# Altium footprint library Connectors-WR-PHD_Pin Header.PcbLib: 232 footprints (part 2 of 15)
Each footprint in its own frame and in the unit in brackets; x right, y up, seen from the top. Pads: shape width x height; smd on the part's side, far side on the other; paste and mask are expansions set on the pad; w line width, h text height; cw(c..) or ccw(c..) is an arc to the next point about the centre after c.
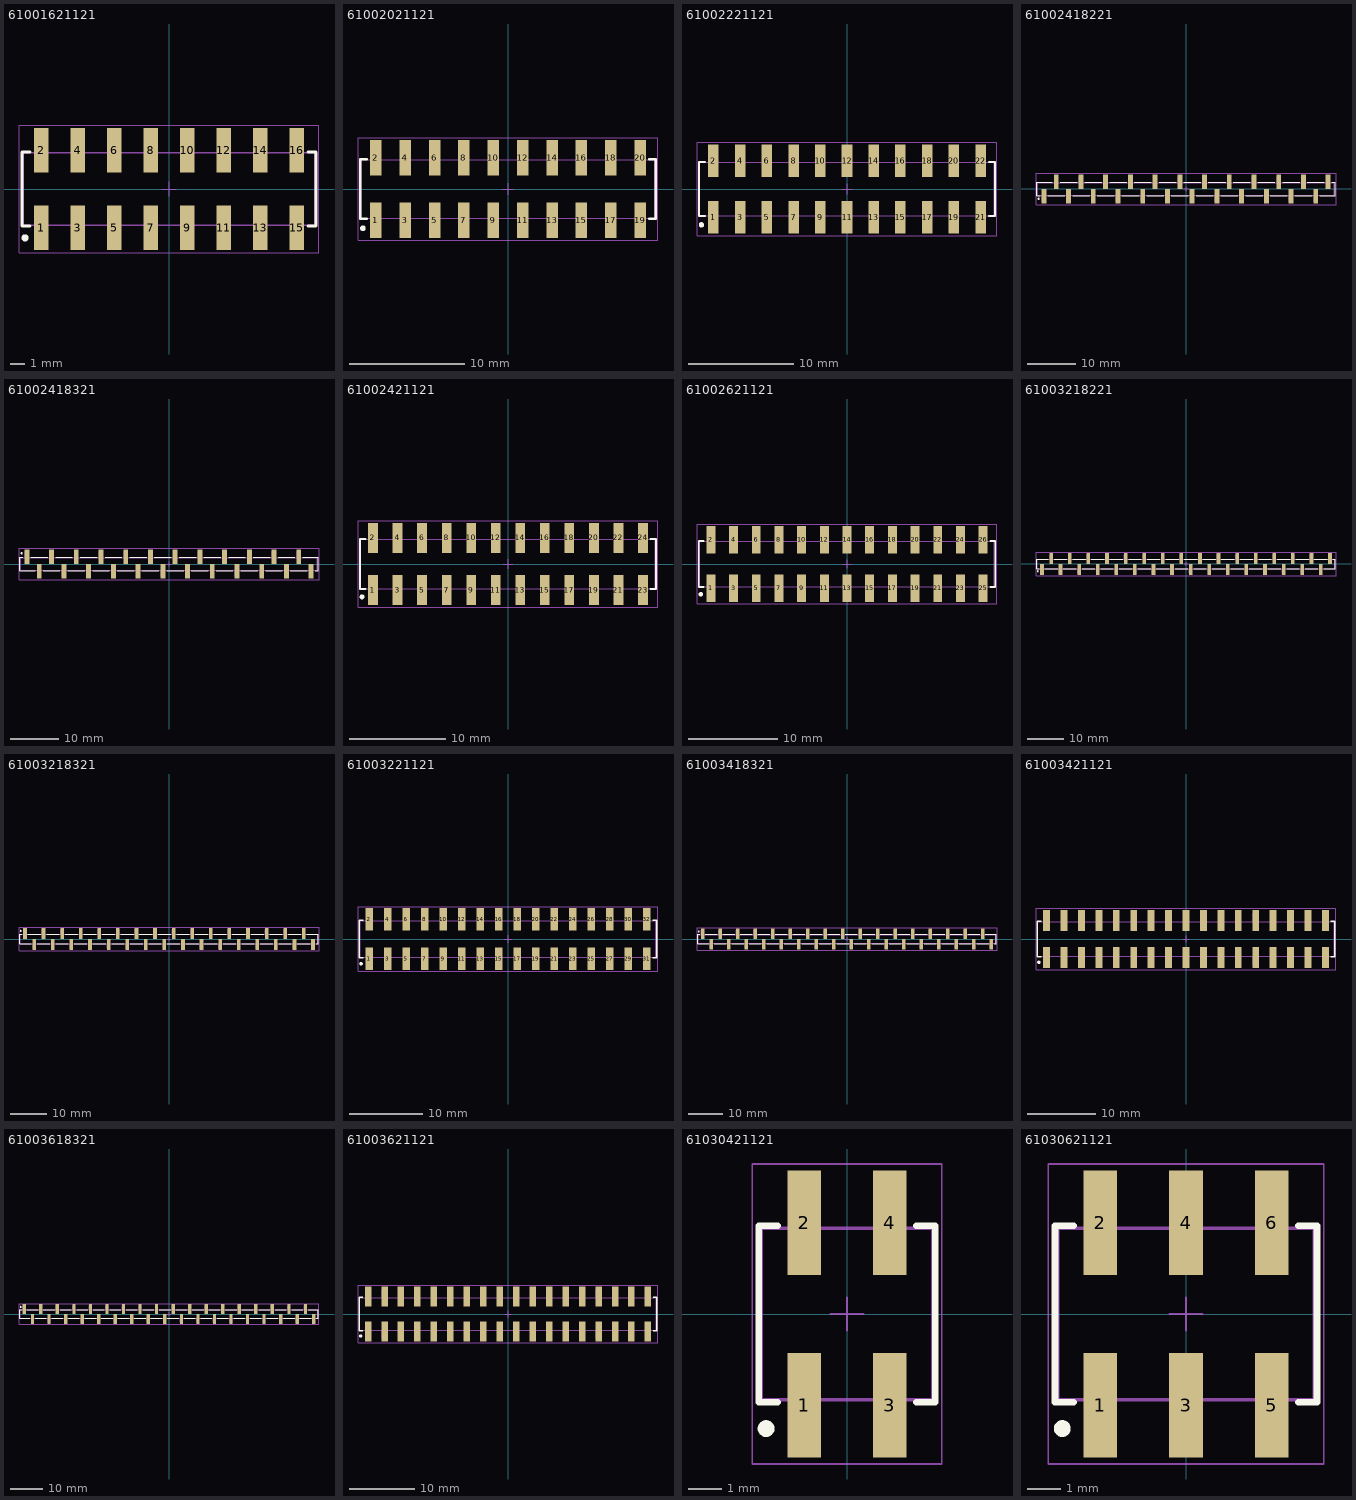
[diagram p1: the footprints below, top view; thin cyan lines are the x and y axes]

## 61001621121 [mm] "Pin Header, pitch 2.54 mm, SMD, Vertical, dual row, 16p"
height 9.6
pads (16):
  rect 1x3.1 smd: 1(-8.89,-2.7) 2(-8.89,2.7) 3(-6.35,-2.7) 4(-6.35,2.7) 5(-3.81,-2.7) 6(-3.81,2.7) 7(-1.27,-2.7) 8(-1.27,2.7) 9(1.27,-2.7) 10(1.27,2.7) 11(3.81,-2.7) 12(3.81,2.7) 13(6.35,-2.7) 14(6.35,2.7) 15(8.89,-2.7) 16(8.89,2.7)
Top Overlay:
  circle w0.25: c-10.02,-3.4 r0.125
  lines w0.2: -9.685,-2.565 -10.235,-2.565 -10.235,2.565 -9.685,2.565 ; 9.685,-2.565 10.235,-2.565 10.235,2.565 9.685,2.565
Top Designator:
  text ".Designator" at -7.498,-0.5 h1.5
Top Component Outline:
  lines w0.1: -9.21,-2.54 -9.21,-3.75 -8.57,-3.75 -8.57,-2.54 ; -9.21,2.54 -9.21,3.75 -8.57,3.75 -8.57,2.54 ; -6.67,-2.54 -6.67,-3.75 -6.03,-3.75 -6.03,-2.54 ; -6.67,2.54 -6.67,3.75 -6.03,3.75 -6.03,2.54 ; -4.13,-2.54 -4.13,-3.75 -3.49,-3.75 -3.49,-2.54 ; -4.13,2.54 -4.13,3.75 -3.49,3.75 -3.49,2.54 ; -1.59,-2.54 -1.59,-3.75 -0.95,-3.75 -0.95,-2.54 ; -1.59,2.54 -1.59,3.75 -0.95,3.75 -0.95,2.54 ; 0.95,-2.54 0.95,-3.75 1.59,-3.75 1.59,-2.54 ; 0.95,2.54 0.95,3.75 1.59,3.75 1.59,2.54 ; 3.49,-2.54 3.49,-3.75 4.13,-3.75 4.13,-2.54 ; 3.49,2.54 3.49,3.75 4.13,3.75 4.13,2.54 ; 6.03,-2.54 6.03,-3.75 6.67,-3.75 6.67,-2.54 ; 6.03,2.54 6.03,3.75 6.67,3.75 6.67,2.54 ; 8.57,-2.54 8.57,-3.75 9.21,-3.75 9.21,-2.54 ; 8.57,2.54 8.57,3.75 9.21,3.75 9.21,2.54 ; -10.16,-2.54 10.16,-2.54 10.16,2.54 -10.16,2.54 -10.16,-2.54
Top Courtyard:
  lines w0.05: -10.435,-4.45 10.435,-4.45 10.435,4.45 -10.435,4.45 -10.435,-4.45
Top Component Center:
  lines w0.05: -0.5,0 0.5,0 ; 0,-0.5 0,0.5
3D body "61001621121.stp": height 9.62, standoff 0.02, extent -10.16,-3.75 10.16,3.75

## 61002021121 [mm] "Pin Header, pitch 2.54 mm, SMD, Vertical, dual row, 20p"
height 9.6
pads (20):
  rect 1x3.1 smd: 1(-11.43,-2.7) 2(-11.43,2.7) 3(-8.89,-2.7) 4(-8.89,2.7) 5(-6.35,-2.7) 6(-6.35,2.7) 7(-3.81,-2.7) 8(-3.81,2.7) 9(-1.27,-2.7) 10(-1.27,2.7) 11(1.27,-2.7) 12(1.27,2.7) 13(3.81,-2.7) 14(3.81,2.7) 15(6.35,-2.7) 16(6.35,2.7) 17(8.89,-2.7) 18(8.89,2.7) 19(11.43,-2.7) 20(11.43,2.7)
Top Overlay:
  circle w0.25: c-12.56,-3.4 r0.125
  lines w0.2: -12.225,-2.565 -12.775,-2.565 -12.775,2.565 -12.225,2.565 ; 12.225,-2.565 12.775,-2.565 12.775,2.565 12.225,2.565
Top Designator:
  text ".Designator" at -7.498,-0.5 h1.5
Top Component Outline:
  lines w0.1: -11.75,-2.54 -11.75,-3.75 -11.11,-3.75 -11.11,-2.54 ; -11.75,2.54 -11.75,3.75 -11.11,3.75 -11.11,2.54 ; -9.21,-2.54 -9.21,-3.75 -8.57,-3.75 -8.57,-2.54 ; -9.21,2.54 -9.21,3.75 -8.57,3.75 -8.57,2.54 ; -6.67,-2.54 -6.67,-3.75 -6.03,-3.75 -6.03,-2.54 ; -6.67,2.54 -6.67,3.75 -6.03,3.75 -6.03,2.54 ; -4.13,-2.54 -4.13,-3.75 -3.49,-3.75 -3.49,-2.54 ; -4.13,2.54 -4.13,3.75 -3.49,3.75 -3.49,2.54 ; -1.59,-2.54 -1.59,-3.75 -0.95,-3.75 -0.95,-2.54 ; -1.59,2.54 -1.59,3.75 -0.95,3.75 -0.95,2.54 ; 0.95,-2.54 0.95,-3.75 1.59,-3.75 1.59,-2.54 ; 0.95,2.54 0.95,3.75 1.59,3.75 1.59,2.54 ; 3.49,-2.54 3.49,-3.75 4.13,-3.75 4.13,-2.54 ; 3.49,2.54 3.49,3.75 4.13,3.75 4.13,2.54 ; 6.03,-2.54 6.03,-3.75 6.67,-3.75 6.67,-2.54 ; 6.03,2.54 6.03,3.75 6.67,3.75 6.67,2.54 ; 8.57,-2.54 8.57,-3.75 9.21,-3.75 9.21,-2.54 ; 8.57,2.54 8.57,3.75 9.21,3.75 9.21,2.54 ; 11.11,-2.54 11.11,-3.75 11.75,-3.75 11.75,-2.54 ; 11.11,2.54 11.11,3.75 11.75,3.75 11.75,2.54 ; -12.7,-2.54 -12.7,2.54 12.7,2.54 12.7,-2.54 -12.7,-2.54
Top Courtyard:
  lines w0.05: -12.975,-4.45 12.975,-4.45 12.975,4.45 -12.975,4.45 -12.975,-4.45
Top Component Center:
  lines w0.05: -0.5,0 0.5,0 ; 0,-0.5 0,0.5
3D body "61002021121.stp": height 9.62, standoff 0.02, extent -12.7,-3.75 12.7,3.75

## 61002221121 [mm] "Pin Header, pitch 2.54 mm, SMD, Vertical, dual row, 22p"
height 9.6
pads (22):
  rect 1x3.1 smd: 1(-12.7,-2.7) 2(-12.7,2.7) 3(-10.16,-2.7) 4(-10.16,2.7) 5(-7.62,-2.7) 6(-7.62,2.7) 7(-5.08,-2.7) 8(-5.08,2.7) 9(-2.54,-2.7) 10(-2.54,2.7) 11(0,-2.7) 12(0,2.7) 13(2.54,-2.7) 14(2.54,2.7) 15(5.08,-2.7) 16(5.08,2.7) 17(7.62,-2.7) 18(7.62,2.7) 19(10.16,-2.7) 20(10.16,2.7) 21(12.7,-2.7) 22(12.7,2.7)
Top Overlay:
  circle w0.25: c-13.83,-3.4 r0.125
  lines w0.2: -13.495,-2.565 -14.045,-2.565 -14.045,2.565 -13.495,2.565 ; 13.495,-2.565 14.045,-2.565 14.045,2.565 13.495,2.565
Top Designator:
  text ".Designator" at -7.498,-0.5 h1.5
Top Component Outline:
  lines w0.1: -13.02,-2.54 -13.02,-3.75 -12.38,-3.75 -12.38,-2.54 ; -13.02,2.54 -13.02,3.75 -12.38,3.75 -12.38,2.54 ; -10.48,-2.54 -10.48,-3.75 -9.84,-3.75 -9.84,-2.54 ; -10.48,2.54 -10.48,3.75 -9.84,3.75 -9.84,2.54 ; -7.94,-2.54 -7.94,-3.75 -7.3,-3.75 -7.3,-2.54 ; -7.94,2.54 -7.94,3.75 -7.3,3.75 -7.3,2.54 ; -5.4,-2.54 -5.4,-3.75 -4.76,-3.75 -4.76,-2.54 ; -5.4,2.54 -5.4,3.75 -4.76,3.75 -4.76,2.54 ; -2.86,-2.54 -2.86,-3.75 -2.22,-3.75 -2.22,-2.54 ; -2.86,2.54 -2.86,3.75 -2.22,3.75 -2.22,2.54 ; -0.32,-2.54 -0.32,-3.75 0.32,-3.75 0.32,-2.54 ; -0.32,2.54 -0.32,3.75 0.32,3.75 0.32,2.54 ; 2.22,-2.54 2.22,-3.75 2.86,-3.75 2.86,-2.54 ; 2.22,2.54 2.22,3.75 2.86,3.75 2.86,2.54 ; 4.76,-2.54 4.76,-3.75 5.4,-3.75 5.4,-2.54 ; 4.76,2.54 4.76,3.75 5.4,3.75 5.4,2.54 ; 7.3,-2.54 7.3,-3.75 7.94,-3.75 7.94,-2.54 ; 7.3,2.54 7.3,3.75 7.94,3.75 7.94,2.54 ; 9.84,-2.54 9.84,-3.75 10.48,-3.75 10.48,-2.54 ; 9.84,2.54 9.84,3.75 10.48,3.75 10.48,2.54 ; 12.38,-2.54 12.38,-3.75 13.02,-3.75 13.02,-2.54 ; 12.38,2.54 12.38,3.75 13.02,3.75 13.02,2.54 ; -13.97,-2.54 13.97,-2.54 13.97,2.54 -13.97,2.54 -13.97,-2.54
Top Courtyard:
  lines w0.05: -14.245,-4.45 -14.245,4.45 14.245,4.45 14.245,-4.45 -14.245,-4.45
Top Component Center:
  lines w0.05: -0.5,0 0.5,0 ; 0,-0.5 0,0.5
3D body "61002221121.stp": height 9.62, standoff 0.02, extent -13.97,-3.75 13.97,3.75

## 61002418221 [mm] "Pin Header, pitch 2.54 mm, SMD, Vertical, single row, 24p"
height 9.3
pads (24):
  rect 1x3 smd: 1(-29.21,-1.5) 2(-26.67,1.5) 3(-24.13,-1.5) 4(-21.59,1.5) 5(-19.05,-1.5) 6(-16.51,1.5) 7(-13.97,-1.5) 8(-11.43,1.5) 9(-8.89,-1.5) 10(-6.35,1.5) 11(-3.81,-1.5) 12(-1.27,1.5) 13(1.27,-1.5) 14(3.81,1.5) 15(6.35,-1.5) 16(8.89,1.5) 17(11.43,-1.5) 18(13.97,1.5) 19(16.51,-1.5) 20(19.05,1.5) 21(21.59,-1.5) 22(24.13,1.5) 23(26.67,-1.5) 24(29.21,1.5)
Top Overlay:
  circle w0.25: c-30.3,-2 r0.125
  lines w0.2: -30,-1.345 -30.63,-1.345 -30.63,1.345 -27.45,1.345 ; -28.4,-1.345 -24.9,-1.345 ; -25.86,1.345 -22.36,1.345 ; -23.32,-1.345 -19.82,-1.345 ; -20.78,1.345 -17.28,1.345 ; -18.24,-1.345 -14.74,-1.345 ; -15.7,1.345 -12.2,1.345 ; -13.16,-1.345 -9.66,-1.345 ; -10.62,1.345 -7.12,1.345 ; -8.08,-1.345 -4.58,-1.345 ; -5.54,1.345 -2.04,1.345 ; -3,-1.345 0.5,-1.345 ; -0.46,1.345 3.04,1.345 ; 2.08,-1.345 5.58,-1.345 ; 4.62,1.345 8.12,1.345 ; 7.16,-1.345 10.66,-1.345 ; 9.7,1.345 13.2,1.345 ; 12.24,-1.345 15.74,-1.345 ; 14.78,1.345 18.28,1.345 ; 17.32,-1.345 20.82,-1.345 ; 19.86,1.345 23.36,1.345 ; 22.4,-1.345 25.9,-1.345 ; 24.94,1.345 28.44,1.345 ; 27.5,-1.345 30.63,-1.345 30.63,1.345 30,1.345
Top Designator:
  text ".Designator" at -7.498,-0.5 h1.5
Top Component Outline:
  lines w0.1: -29.53,-1.27 -29.53,-2.5 -28.89,-2.5 -28.89,-1.27 ; -26.99,1.27 -26.99,2.5 -26.35,2.5 -26.35,1.27 ; -24.45,-1.27 -24.45,-2.5 -23.81,-2.5 -23.81,-1.27 ; -21.91,1.27 -21.91,2.5 -21.27,2.5 -21.27,1.27 ; -19.37,-1.27 -19.37,-2.5 -18.73,-2.5 -18.73,-1.27 ; -16.83,1.27 -16.83,2.5 -16.19,2.5 -16.19,1.27 ; -14.29,-1.27 -14.29,-2.5 -13.65,-2.5 -13.65,-1.27 ; -11.75,1.27 -11.75,2.5 -11.11,2.5 -11.11,1.27 ; -9.21,-1.27 -9.21,-2.5 -8.57,-2.5 -8.57,-1.27 ; -6.67,1.27 -6.67,2.5 -6.03,2.5 -6.03,1.27 ; -4.13,-1.27 -4.13,-2.5 -3.49,-2.5 -3.49,-1.27 ; -1.59,1.27 -1.59,2.5 -0.95,2.5 -0.95,1.27 ; 0.95,-1.27 0.95,-2.5 1.59,-2.5 1.59,-1.27 ; 3.49,1.27 3.49,2.5 4.13,2.5 4.13,1.27 ; 6.03,-1.27 6.03,-2.5 6.67,-2.5 6.67,-1.27 ; 8.57,1.27 8.57,2.5 9.21,2.5 9.21,1.27 ; 11.11,-1.27 11.11,-2.5 11.75,-2.5 11.75,-1.27 ; 13.65,1.27 13.65,2.5 14.29,2.5 14.29,1.27 ; 16.19,-1.27 16.19,-2.5 16.83,-2.5 16.83,-1.27 ; 18.73,1.27 18.73,2.5 19.37,2.5 19.37,1.27 ; 21.27,-1.27 21.27,-2.5 21.91,-2.5 21.91,-1.27 ; 23.81,1.27 23.81,2.5 24.45,2.5 24.45,1.27 ; 26.35,-1.27 26.35,-2.5 26.99,-2.5 26.99,-1.27 ; 28.89,1.27 28.89,2.5 29.53,2.5 29.53,1.27 ; -30.48,-1.27 -30.48,1.27 30.48,1.27 30.48,-1.27 -30.48,-1.27
Top Courtyard:
  lines w0.05: -30.83,-3.2 -30.83,3.2 30.83,3.2 30.83,-3.2 -30.83,-3.2
Top Component Center:
  lines w0.05: -0.5,0 0.5,0 ; 0,-0.5 0,0.5
3D body "61002418221.stp": height 9.33, standoff 0, extent -30.48,-2.5 30.48,2.5

## 61002418321 [mm] "Pin Header, pitch 2.54 mm, SMD, Vertical, single row, 24p"
height 9.3
pads (24):
  rect 1x3 smd: 1(-29.21,1.5) 2(-26.67,-1.5) 3(-24.13,1.5) 4(-21.59,-1.5) 5(-19.05,1.5) 6(-16.51,-1.5) 7(-13.97,1.5) 8(-11.43,-1.5) 9(-8.89,1.5) 10(-6.35,-1.5) 11(-3.81,1.5) 12(-1.27,-1.5) 13(1.27,1.5) 14(3.81,-1.5) 15(6.35,1.5) 16(8.89,-1.5) 17(11.43,1.5) 18(13.97,-1.5) 19(16.51,1.5) 20(19.05,-1.5) 21(21.59,1.5) 22(24.13,-1.5) 23(26.67,1.5) 24(29.21,-1.5)
Top Overlay:
  circle w0.25: c-30.3,2.2 r0.125
  lines w0.2: -30.03,1.345 -30.63,1.345 -30.63,-1.345 -27.47,-1.345 ; -28.39,1.345 -24.93,1.345 ; -25.87,-1.345 -22.41,-1.345 ; -23.31,1.345 -19.85,1.345 ; -20.79,-1.345 -17.33,-1.345 ; -18.23,1.345 -14.77,1.345 ; -15.71,-1.345 -12.25,-1.345 ; -13.15,1.345 -9.69,1.345 ; -10.63,-1.345 -7.17,-1.345 ; -8.07,1.345 -4.61,1.345 ; -5.55,-1.345 -2.09,-1.345 ; -2.99,1.345 0.47,1.345 ; -0.47,-1.345 2.99,-1.345 ; 2.09,1.345 5.55,1.345 ; 4.61,-1.345 8.07,-1.345 ; 7.17,1.345 10.63,1.345 ; 9.69,-1.345 13.15,-1.345 ; 12.25,1.345 15.71,1.345 ; 14.77,-1.345 18.23,-1.345 ; 17.33,1.345 20.79,1.345 ; 19.85,-1.345 23.31,-1.345 ; 22.41,1.345 25.87,1.345 ; 24.93,-1.345 28.39,-1.345 ; 27.47,1.345 30.63,1.345 30.63,-1.345 30.03,-1.345
Top Designator:
  text ".Designator" at -7.498,-0.5 h1.5
Top Component Outline:
  lines w0.1: -29.53,1.27 -29.53,2.5 -28.89,2.5 -28.89,1.27 ; -26.99,-1.27 -26.99,-2.5 -26.35,-2.5 -26.35,-1.27 ; -24.45,1.27 -24.45,2.5 -23.81,2.5 -23.81,1.27 ; -21.91,-1.27 -21.91,-2.5 -21.27,-2.5 -21.27,-1.27 ; -19.37,1.27 -19.37,2.5 -18.73,2.5 -18.73,1.27 ; -16.83,-1.27 -16.83,-2.5 -16.19,-2.5 -16.19,-1.27 ; -14.29,1.27 -14.29,2.5 -13.65,2.5 -13.65,1.27 ; -11.75,-1.27 -11.75,-2.5 -11.11,-2.5 -11.11,-1.27 ; -9.21,1.27 -9.21,2.5 -8.57,2.5 -8.57,1.27 ; -6.67,-1.27 -6.67,-2.5 -6.03,-2.5 -6.03,-1.27 ; -4.13,1.27 -4.13,2.5 -3.49,2.5 -3.49,1.27 ; -1.59,-1.27 -1.59,-2.5 -0.95,-2.5 -0.95,-1.27 ; 0.95,1.27 0.95,2.5 1.59,2.5 1.59,1.27 ; 3.49,-1.27 3.49,-2.5 4.13,-2.5 4.13,-1.27 ; 6.03,1.27 6.03,2.5 6.67,2.5 6.67,1.27 ; 8.57,-1.27 8.57,-2.5 9.21,-2.5 9.21,-1.27 ; 11.11,1.27 11.11,2.5 11.75,2.5 11.75,1.27 ; 13.65,-1.27 13.65,-2.5 14.29,-2.5 14.29,-1.27 ; 16.19,1.27 16.19,2.5 16.83,2.5 16.83,1.27 ; 18.73,-1.27 18.73,-2.5 19.37,-2.5 19.37,-1.27 ; 21.27,1.27 21.27,2.5 21.91,2.5 21.91,1.27 ; 23.81,-1.27 23.81,-2.5 24.45,-2.5 24.45,-1.27 ; 26.35,1.27 26.35,2.5 26.99,2.5 26.99,1.27 ; 28.89,-1.27 28.89,-2.5 29.53,-2.5 29.53,-1.27 ; -30.48,-1.27 -30.48,1.27 30.48,1.27 30.48,-1.27 -30.48,-1.27
Top Courtyard:
  lines w0.05: -30.83,-3.2 30.83,-3.2 30.83,3.2 -30.83,3.2 -30.83,-3.2
Top Component Center:
  lines w0.05: -0.5,0 0.5,0 ; 0,-0.5 0,0.5
3D body "61002418321.stp": height 9.37, standoff 0.04, extent -30.48,-2.5 30.48,2.5

## 61002421121 [mm] "Pin Header, pitch 2.54 mm, SMD, Vertical, dual row, 24p"
height 9.6
pads (24):
  rect 1x3.1 smd: 1(-13.97,-2.7) 2(-13.97,2.7) 3(-11.43,-2.7) 4(-11.43,2.7) 5(-8.89,-2.7) 6(-8.89,2.7) 7(-6.35,-2.7) 8(-6.35,2.7) 9(-3.81,-2.7) 10(-3.81,2.7) 11(-1.27,-2.7) 12(-1.27,2.7) 13(1.27,-2.7) 14(1.27,2.7) 15(3.81,-2.7) 16(3.81,2.7) 17(6.35,-2.7) 18(6.35,2.7) 19(8.89,-2.7) 20(8.89,2.7) 21(11.43,-2.7) 22(11.43,2.7) 23(13.97,-2.7) 24(13.97,2.7)
Top Overlay:
  circle w0.25: c-15.1,-3.4 r0.125
  lines w0.2: -14.765,-2.565 -15.315,-2.565 -15.315,2.565 -14.765,2.565 ; 14.765,-2.565 15.315,-2.565 15.315,2.565 14.765,2.565
Top Designator:
  text ".Designator" at -7.498,-0.5 h1.5
Top Component Outline:
  lines w0.1: -14.29,-2.54 -14.29,-3.75 -13.65,-3.75 -13.65,-2.54 ; -14.29,2.54 -14.29,3.75 -13.65,3.75 -13.65,2.54 ; -11.75,-2.54 -11.75,-3.75 -11.11,-3.75 -11.11,-2.54 ; -11.75,2.54 -11.75,3.75 -11.11,3.75 -11.11,2.54 ; -9.21,-2.54 -9.21,-3.75 -8.57,-3.75 -8.57,-2.54 ; -9.21,2.54 -9.21,3.75 -8.57,3.75 -8.57,2.54 ; -6.67,-2.54 -6.67,-3.75 -6.03,-3.75 -6.03,-2.54 ; -6.67,2.54 -6.67,3.75 -6.03,3.75 -6.03,2.54 ; -4.13,-2.54 -4.13,-3.75 -3.49,-3.75 -3.49,-2.54 ; -4.13,2.54 -4.13,3.75 -3.49,3.75 -3.49,2.54 ; -1.59,-2.54 -1.59,-3.75 -0.95,-3.75 -0.95,-2.54 ; -1.59,2.54 -1.59,3.75 -0.95,3.75 -0.95,2.54 ; 0.95,-2.54 0.95,-3.75 1.59,-3.75 1.59,-2.54 ; 0.95,2.54 0.95,3.75 1.59,3.75 1.59,2.54 ; 3.49,-2.54 3.49,-3.75 4.13,-3.75 4.13,-2.54 ; 3.49,2.54 3.49,3.75 4.13,3.75 4.13,2.54 ; 6.03,-2.54 6.03,-3.75 6.67,-3.75 6.67,-2.54 ; 6.03,2.54 6.03,3.75 6.67,3.75 6.67,2.54 ; 8.57,-2.54 8.57,-3.75 9.21,-3.75 9.21,-2.54 ; 8.57,2.54 8.57,3.75 9.21,3.75 9.21,2.54 ; 11.11,-2.54 11.11,-3.75 11.75,-3.75 11.75,-2.54 ; 11.11,2.54 11.11,3.75 11.75,3.75 11.75,2.54 ; 13.65,-2.54 13.65,-3.75 14.29,-3.75 14.29,-2.54 ; 13.65,2.54 13.65,3.75 14.29,3.75 14.29,2.54 ; -15.24,-2.54 15.24,-2.54 15.24,2.54 -15.24,2.54 -15.24,-2.54
Top Courtyard:
  lines w0.05: -15.515,-4.45 -15.515,4.45 15.515,4.45 15.515,-4.45 -15.515,-4.45
Top Component Center:
  lines w0.05: -0.5,0 0.5,0 ; 0,-0.5 0,0.5
3D body "61002421121.stp": height 9.62, standoff 0.02, extent -15.24,-3.75 15.24,3.75

## 61002621121 [mm] "Pin Header, pitch 2.54 mm, SMD, Vertical, dual row, 26p"
height 9.6
pads (26):
  rect 1x3.1 smd: 1(-15.24,-2.7) 2(-15.24,2.7) 3(-12.7,-2.7) 4(-12.7,2.7) 5(-10.16,-2.7) 6(-10.16,2.7) 7(-7.62,-2.7) 8(-7.62,2.7) 9(-5.08,-2.7) 10(-5.08,2.7) 11(-2.54,-2.7) 12(-2.54,2.7) 13(0,-2.7) 14(0,2.7) 15(2.54,-2.7) 16(2.54,2.7) 17(5.08,-2.7) 18(5.08,2.7) 19(7.62,-2.7) 20(7.62,2.7) 21(10.16,-2.7) 22(10.16,2.7) 23(12.7,-2.7) 24(12.7,2.7) 25(15.24,-2.7) 26(15.24,2.7)
Top Overlay:
  circle w0.25: c-16.37,-3.4 r0.125
  lines w0.2: -16.035,-2.565 -16.585,-2.565 -16.585,2.565 -16.035,2.565 ; 16.035,-2.565 16.585,-2.565 16.585,2.565 16.035,2.565
Top Designator:
  text ".Designator" at -7.498,-0.5 h1.5
Top Component Outline:
  lines w0.1: -15.56,-2.54 -15.56,-3.75 -14.92,-3.75 -14.92,-2.54 ; -15.56,2.54 -15.56,3.75 -14.92,3.75 -14.92,2.54 ; -13.02,-2.54 -13.02,-3.75 -12.38,-3.75 -12.38,-2.54 ; -13.02,2.54 -13.02,3.75 -12.38,3.75 -12.38,2.54 ; -10.48,-2.54 -10.48,-3.75 -9.84,-3.75 -9.84,-2.54 ; -10.48,2.54 -10.48,3.75 -9.84,3.75 -9.84,2.54 ; -7.94,-2.54 -7.94,-3.75 -7.3,-3.75 -7.3,-2.54 ; -7.94,2.54 -7.94,3.75 -7.3,3.75 -7.3,2.54 ; -5.4,-2.54 -5.4,-3.75 -4.76,-3.75 -4.76,-2.54 ; -5.4,2.54 -5.4,3.75 -4.76,3.75 -4.76,2.54 ; -2.86,-2.54 -2.86,-3.75 -2.22,-3.75 -2.22,-2.54 ; -2.86,2.54 -2.86,3.75 -2.22,3.75 -2.22,2.54 ; -0.32,-2.54 -0.32,-3.75 0.32,-3.75 0.32,-2.54 ; -0.32,2.54 -0.32,3.75 0.32,3.75 0.32,2.54 ; 2.22,-2.54 2.22,-3.75 2.86,-3.75 2.86,-2.54 ; 2.22,2.54 2.22,3.75 2.86,3.75 2.86,2.54 ; 4.76,-2.54 4.76,-3.75 5.4,-3.75 5.4,-2.54 ; 4.76,2.54 4.76,3.75 5.4,3.75 5.4,2.54 ; 7.3,-2.54 7.3,-3.75 7.94,-3.75 7.94,-2.54 ; 7.3,2.54 7.3,3.75 7.94,3.75 7.94,2.54 ; 9.84,-2.54 9.84,-3.75 10.48,-3.75 10.48,-2.54 ; 9.84,2.54 9.84,3.75 10.48,3.75 10.48,2.54 ; 12.38,-2.54 12.38,-3.75 13.02,-3.75 13.02,-2.54 ; 12.38,2.54 12.38,3.75 13.02,3.75 13.02,2.54 ; 14.92,-2.54 14.92,-3.75 15.56,-3.75 15.56,-2.54 ; 14.92,2.54 14.92,3.75 15.56,3.75 15.56,2.54 ; -16.51,-2.54 16.51,-2.54 16.51,2.54 -16.51,2.54 -16.51,-2.54
Top Courtyard:
  lines w0.05: -16.785,-4.45 -16.785,4.45 16.785,4.45 16.785,-4.45 -16.785,-4.45
Top Component Center:
  lines w0.05: -0.5,0 0.5,0 ; 0,-0.5 0,0.5
3D body "61002621121.stp": height 9.62, standoff 0.02, extent -16.51,-3.75 16.51,3.75

## 61003218221 [mm] "Pin Header, pitch 2.54 mm, SMD, Vertical, single row, 32p"
height 9.3
pads (32):
  rect 1x3 smd: 1(-39.37,-1.5) 2(-36.83,1.5) 3(-34.29,-1.5) 4(-31.75,1.5) 5(-29.21,-1.5) 6(-26.67,1.5) 7(-24.13,-1.5) 8(-21.59,1.5) 9(-19.05,-1.5) 10(-16.51,1.5) 11(-13.97,-1.5) 12(-11.43,1.5) 13(-8.89,-1.5) 14(-6.35,1.5) 15(-3.81,-1.5) 16(-1.27,1.5) 17(1.27,-1.5) 18(3.81,1.5) 19(6.35,-1.5) 20(8.89,1.5) 21(11.43,-1.5) 22(13.97,1.5) 23(16.51,-1.5) 24(19.05,1.5) 25(21.59,-1.5) 26(24.13,1.5) 27(26.67,-1.5) 28(29.21,1.5) 29(31.75,-1.5) 30(34.29,1.5) 31(36.83,-1.5) 32(39.37,1.5)
Top Overlay:
  circle w0.25: c-40.46,-2 r0.125
  lines w0.2: -40.16,-1.345 -40.79,-1.345 -40.79,1.345 -37.61,1.345 ; -38.56,-1.345 -35.06,-1.345 ; -36.02,1.345 -32.52,1.345 ; -33.48,-1.345 -29.98,-1.345 ; -30.94,1.345 -27.44,1.345 ; -28.4,-1.345 -24.9,-1.345 ; -25.86,1.345 -22.36,1.345 ; -23.32,-1.345 -19.82,-1.345 ; -20.78,1.345 -17.28,1.345 ; -18.24,-1.345 -14.74,-1.345 ; -15.7,1.345 -12.2,1.345 ; -13.16,-1.345 -9.66,-1.345 ; -10.62,1.345 -7.12,1.345 ; -8.08,-1.345 -4.58,-1.345 ; -5.54,1.345 -2.04,1.345 ; -3,-1.345 0.5,-1.345 ; -0.46,1.345 3.04,1.345 ; 2.08,-1.345 5.58,-1.345 ; 4.62,1.345 8.12,1.345 ; 7.16,-1.345 10.66,-1.345 ; 9.7,1.345 13.2,1.345 ; 12.24,-1.345 15.74,-1.345 ; 14.78,1.345 18.28,1.345 ; 17.32,-1.345 20.82,-1.345 ; 19.86,1.345 23.36,1.345 ; 22.4,-1.345 25.9,-1.345 ; 24.94,1.345 28.44,1.345 ; 27.48,-1.345 30.98,-1.345 ; 30.02,1.345 33.52,1.345 ; 32.56,-1.345 36.06,-1.345 ; 35.1,1.345 38.6,1.345 ; 37.66,-1.345 40.79,-1.345 40.79,1.345 40.16,1.345
Top Designator:
  text ".Designator" at -7.498,-0.5 h1.5
Top Component Outline:
  lines w0.1: -39.69,-1.27 -39.69,-2.5 -39.05,-2.5 -39.05,-1.27 ; -37.15,1.27 -37.15,2.5 -36.51,2.5 -36.51,1.27 ; -34.61,-1.27 -34.61,-2.5 -33.97,-2.5 -33.97,-1.27 ; -32.07,1.27 -32.07,2.5 -31.43,2.5 -31.43,1.27 ; -29.53,-1.27 -29.53,-2.5 -28.89,-2.5 -28.89,-1.27 ; -26.99,1.27 -26.99,2.5 -26.35,2.5 -26.35,1.27 ; -24.45,-1.27 -24.45,-2.5 -23.81,-2.5 -23.81,-1.27 ; -21.91,1.27 -21.91,2.5 -21.27,2.5 -21.27,1.27 ; -19.37,-1.27 -19.37,-2.5 -18.73,-2.5 -18.73,-1.27 ; -16.83,1.27 -16.83,2.5 -16.19,2.5 -16.19,1.27 ; -14.29,-1.27 -14.29,-2.5 -13.65,-2.5 -13.65,-1.27 ; -11.75,1.27 -11.75,2.5 -11.11,2.5 -11.11,1.27 ; -9.21,-1.27 -9.21,-2.5 -8.57,-2.5 -8.57,-1.27 ; -6.67,1.27 -6.67,2.5 -6.03,2.5 -6.03,1.27 ; -4.13,-1.27 -4.13,-2.5 -3.49,-2.5 -3.49,-1.27 ; -1.59,1.27 -1.59,2.5 -0.95,2.5 -0.95,1.27 ; 0.95,-1.27 0.95,-2.5 1.59,-2.5 1.59,-1.27 ; 3.49,1.27 3.49,2.5 4.13,2.5 4.13,1.27 ; 6.03,-1.27 6.03,-2.5 6.67,-2.5 6.67,-1.27 ; 8.57,1.27 8.57,2.5 9.21,2.5 9.21,1.27 ; 11.11,-1.27 11.11,-2.5 11.75,-2.5 11.75,-1.27 ; 13.65,1.27 13.65,2.5 14.29,2.5 14.29,1.27 ; 16.19,-1.27 16.19,-2.5 16.83,-2.5 16.83,-1.27 ; 18.73,1.27 18.73,2.5 19.37,2.5 19.37,1.27 ; 21.27,-1.27 21.27,-2.5 21.91,-2.5 21.91,-1.27 ; 23.81,1.27 23.81,2.5 24.45,2.5 24.45,1.27 ; 26.35,-1.27 26.35,-2.5 26.99,-2.5 26.99,-1.27 ; 28.89,1.27 28.89,2.5 29.53,2.5 29.53,1.27 ; 31.43,-1.27 31.43,-2.5 32.07,-2.5 32.07,-1.27 ; 33.97,1.27 33.97,2.5 34.61,2.5 34.61,1.27 ; 36.51,-1.27 36.51,-2.5 37.15,-2.5 37.15,-1.27 ; 39.05,1.27 39.05,2.5 39.69,2.5 39.69,1.27 ; -40.64,-1.27 -40.64,1.27 40.64,1.27 40.64,-1.27 -40.64,-1.27
Top Courtyard:
  lines w0.05: -40.99,-3.2 -40.99,3.2 40.99,3.2 40.99,-3.2 -40.99,-3.2
Top Component Center:
  lines w0.05: -0.5,0 0.5,0 ; 0,-0.5 0,0.5
3D body "61003218221.stp": height 9.33, standoff 0, extent -40.64,-2.5 40.64,2.5

## 61003218321 [mm] "Pin Header, pitch 2.54 mm, SMD, Vertical, single row, 32p"
height 9.3
pads (32):
  rect 1x3 smd: 1(-39.37,1.5) 2(-36.83,-1.5) 3(-34.29,1.5) 4(-31.75,-1.5) 5(-29.21,1.5) 6(-26.67,-1.5) 7(-24.13,1.5) 8(-21.59,-1.5) 9(-19.05,1.5) 10(-16.51,-1.5) 11(-13.97,1.5) 12(-11.43,-1.5) 13(-8.89,1.5) 14(-6.35,-1.5) 15(-3.81,1.5) 16(-1.27,-1.5) 17(1.27,1.5) 18(3.81,-1.5) 19(6.35,1.5) 20(8.89,-1.5) 21(11.43,1.5) 22(13.97,-1.5) 23(16.51,1.5) 24(19.05,-1.5) 25(21.59,1.5) 26(24.13,-1.5) 27(26.67,1.5) 28(29.21,-1.5) 29(31.75,1.5) 30(34.29,-1.5) 31(36.83,1.5) 32(39.37,-1.5)
Top Overlay:
  circle w0.25: c-40.46,2.2 r0.125
  lines w0.2: -40.19,1.345 -40.79,1.345 -40.79,-1.345 -37.63,-1.345 ; -38.55,1.345 -35.09,1.345 ; -36.03,-1.345 -32.57,-1.345 ; -33.47,1.345 -30.01,1.345 ; -30.95,-1.345 -27.49,-1.345 ; -28.39,1.345 -24.93,1.345 ; -25.87,-1.345 -22.41,-1.345 ; -23.31,1.345 -19.85,1.345 ; -20.79,-1.345 -17.33,-1.345 ; -18.23,1.345 -14.77,1.345 ; -15.71,-1.345 -12.25,-1.345 ; -13.15,1.345 -9.69,1.345 ; -10.63,-1.345 -7.17,-1.345 ; -8.07,1.345 -4.61,1.345 ; -5.55,-1.345 -2.09,-1.345 ; -2.99,1.345 0.47,1.345 ; -0.47,-1.345 2.99,-1.345 ; 2.09,1.345 5.55,1.345 ; 4.61,-1.345 8.07,-1.345 ; 7.17,1.345 10.63,1.345 ; 9.69,-1.345 13.15,-1.345 ; 12.25,1.345 15.71,1.345 ; 14.77,-1.345 18.23,-1.345 ; 17.33,1.345 20.79,1.345 ; 19.85,-1.345 23.31,-1.345 ; 22.41,1.345 25.87,1.345 ; 24.93,-1.345 28.39,-1.345 ; 27.49,1.345 30.95,1.345 ; 30.01,-1.345 33.47,-1.345 ; 32.57,1.345 36.03,1.345 ; 35.09,-1.345 38.55,-1.345 ; 37.63,1.345 40.79,1.345 40.79,-1.345 40.19,-1.345
Top Designator:
  text ".Designator" at -7.498,-0.5 h1.5
Top Component Outline:
  lines w0.1: -39.69,1.27 -39.69,2.5 -39.05,2.5 -39.05,1.27 ; -37.15,-1.27 -37.15,-2.5 -36.51,-2.5 -36.51,-1.27 ; -34.61,1.27 -34.61,2.5 -33.97,2.5 -33.97,1.27 ; -32.07,-1.27 -32.07,-2.5 -31.43,-2.5 -31.43,-1.27 ; -29.53,1.27 -29.53,2.5 -28.89,2.5 -28.89,1.27 ; -26.99,-1.27 -26.99,-2.5 -26.35,-2.5 -26.35,-1.27 ; -24.45,1.27 -24.45,2.5 -23.81,2.5 -23.81,1.27 ; -21.91,-1.27 -21.91,-2.5 -21.27,-2.5 -21.27,-1.27 ; -19.37,1.27 -19.37,2.5 -18.73,2.5 -18.73,1.27 ; -16.83,-1.27 -16.83,-2.5 -16.19,-2.5 -16.19,-1.27 ; -14.29,1.27 -14.29,2.5 -13.65,2.5 -13.65,1.27 ; -11.75,-1.27 -11.75,-2.5 -11.11,-2.5 -11.11,-1.27 ; -9.21,1.27 -9.21,2.5 -8.57,2.5 -8.57,1.27 ; -6.67,-1.27 -6.67,-2.5 -6.03,-2.5 -6.03,-1.27 ; -4.13,1.27 -4.13,2.5 -3.49,2.5 -3.49,1.27 ; -1.59,-1.27 -1.59,-2.5 -0.95,-2.5 -0.95,-1.27 ; 0.95,1.27 0.95,2.5 1.59,2.5 1.59,1.27 ; 3.49,-1.27 3.49,-2.5 4.13,-2.5 4.13,-1.27 ; 6.03,1.27 6.03,2.5 6.67,2.5 6.67,1.27 ; 8.57,-1.27 8.57,-2.5 9.21,-2.5 9.21,-1.27 ; 11.11,1.27 11.11,2.5 11.75,2.5 11.75,1.27 ; 13.65,-1.27 13.65,-2.5 14.29,-2.5 14.29,-1.27 ; 16.19,1.27 16.19,2.5 16.83,2.5 16.83,1.27 ; 18.73,-1.27 18.73,-2.5 19.37,-2.5 19.37,-1.27 ; 21.27,1.27 21.27,2.5 21.91,2.5 21.91,1.27 ; 23.81,-1.27 23.81,-2.5 24.45,-2.5 24.45,-1.27 ; 26.35,1.27 26.35,2.5 26.99,2.5 26.99,1.27 ; 28.89,-1.27 28.89,-2.5 29.53,-2.5 29.53,-1.27 ; 31.43,1.27 31.43,2.5 32.07,2.5 32.07,1.27 ; 33.97,-1.27 33.97,-2.5 34.61,-2.5 34.61,-1.27 ; 36.51,1.27 36.51,2.5 37.15,2.5 37.15,1.27 ; 39.05,-1.27 39.05,-2.5 39.69,-2.5 39.69,-1.27 ; -40.64,-1.27 -40.64,1.27 40.64,1.27 40.64,-1.27 -40.64,-1.27
Top Courtyard:
  lines w0.05: -40.99,-3.2 -40.99,3.2 40.99,3.2 40.99,-3.2 -40.99,-3.2
Top Component Center:
  lines w0.05: -0.5,0 0.5,0 ; 0,-0.5 0,0.5
3D body "61003218321.stp": height 9.37, standoff 0.04, extent -40.64,-2.5 40.64,2.5

## 61003221121 [mm] "Pin Header, pitch 2.54 mm, SMD, Vertical, dual row, 32p"
height 9.6
pads (32):
  rect 1x3.1 smd: 1(-19.05,-2.7) 2(-19.05,2.7) 3(-16.51,-2.7) 4(-16.51,2.7) 5(-13.97,-2.7) 6(-13.97,2.7) 7(-11.43,-2.7) 8(-11.43,2.7) 9(-8.89,-2.7) 10(-8.89,2.7) 11(-6.35,-2.7) 12(-6.35,2.7) 13(-3.81,-2.7) 14(-3.81,2.7) 15(-1.27,-2.7) 16(-1.27,2.7) 17(1.27,-2.7) 18(1.27,2.7) 19(3.81,-2.7) 20(3.81,2.7) 21(6.35,-2.7) 22(6.35,2.7) 23(8.89,-2.7) 24(8.89,2.7) 25(11.43,-2.7) 26(11.43,2.7) 27(13.97,-2.7) 28(13.97,2.7) 29(16.51,-2.7) 30(16.51,2.7) 31(19.05,-2.7) 32(19.05,2.7)
Top Overlay:
  circle w0.25: c-20.18,-3.4 r0.125
  lines w0.2: -19.845,-2.565 -20.395,-2.565 -20.395,2.565 -19.845,2.565 ; 19.845,-2.565 20.395,-2.565 20.395,2.565 19.845,2.565
Top Designator:
  text ".Designator" at -7.498,-0.5 h1.5
Top Component Outline:
  lines w0.1: -19.37,-2.54 -19.37,-3.75 -18.73,-3.75 -18.73,-2.54 ; -19.37,2.54 -19.37,3.75 -18.73,3.75 -18.73,2.54 ; -16.83,-2.54 -16.83,-3.75 -16.19,-3.75 -16.19,-2.54 ; -16.83,2.54 -16.83,3.75 -16.19,3.75 -16.19,2.54 ; -14.29,-2.54 -14.29,-3.75 -13.65,-3.75 -13.65,-2.54 ; -14.29,2.54 -14.29,3.75 -13.65,3.75 -13.65,2.54 ; -11.75,-2.54 -11.75,-3.75 -11.11,-3.75 -11.11,-2.54 ; -11.75,2.54 -11.75,3.75 -11.11,3.75 -11.11,2.54 ; -9.21,-2.54 -9.21,-3.75 -8.57,-3.75 -8.57,-2.54 ; -9.21,2.54 -9.21,3.75 -8.57,3.75 -8.57,2.54 ; -6.67,-2.54 -6.67,-3.75 -6.03,-3.75 -6.03,-2.54 ; -6.67,2.54 -6.67,3.75 -6.03,3.75 -6.03,2.54 ; -4.13,-2.54 -4.13,-3.75 -3.49,-3.75 -3.49,-2.54 ; -4.13,2.54 -4.13,3.75 -3.49,3.75 -3.49,2.54 ; -1.59,-2.54 -1.59,-3.75 -0.95,-3.75 -0.95,-2.54 ; -1.59,2.54 -1.59,3.75 -0.95,3.75 -0.95,2.54 ; 0.95,-2.54 0.95,-3.75 1.59,-3.75 1.59,-2.54 ; 0.95,2.54 0.95,3.75 1.59,3.75 1.59,2.54 ; 3.49,-2.54 3.49,-3.75 4.13,-3.75 4.13,-2.54 ; 3.49,2.54 3.49,3.75 4.13,3.75 4.13,2.54 ; 6.03,-2.54 6.03,-3.75 6.67,-3.75 6.67,-2.54 ; 6.03,2.54 6.03,3.75 6.67,3.75 6.67,2.54 ; 8.57,-2.54 8.57,-3.75 9.21,-3.75 9.21,-2.54 ; 8.57,2.54 8.57,3.75 9.21,3.75 9.21,2.54 ; 11.11,-2.54 11.11,-3.75 11.75,-3.75 11.75,-2.54 ; 11.11,2.54 11.11,3.75 11.75,3.75 11.75,2.54 ; 13.65,-2.54 13.65,-3.75 14.29,-3.75 14.29,-2.54 ; 13.65,2.54 13.65,3.75 14.29,3.75 14.29,2.54 ; 16.19,-2.54 16.19,-3.75 16.83,-3.75 16.83,-2.54 ; 16.19,2.54 16.19,3.75 16.83,3.75 16.83,2.54 ; 18.73,-2.54 18.73,-3.75 19.37,-3.75 19.37,-2.54 ; 18.73,2.54 18.73,3.75 19.37,3.75 19.37,2.54 ; -20.32,-2.54 20.32,-2.54 20.32,2.54 -20.32,2.54 -20.32,-2.54
Top Courtyard:
  lines w0.05: -20.595,-4.45 20.595,-4.45 20.595,4.45 -20.595,4.45 -20.595,-4.45
Top Component Center:
  lines w0.05: -0.5,0 0.5,0 ; 0,-0.5 0,0.5
3D body "61003221121.stp": height 9.62, standoff 0.02, extent -20.32,-3.75 20.32,3.75

## 61003418321 [mm] "Pin Header, pitch 2.54 mm, SMD, Vertical, single row, 34p"
height 9.3
pads (34):
  rect 1x3 smd: 1(-41.91,1.5) 2(-39.37,-1.5) 3(-36.83,1.5) 4(-34.29,-1.5) 5(-31.75,1.5) 6(-29.21,-1.5) 7(-26.67,1.5) 8(-24.13,-1.5) 9(-21.59,1.5) 10(-19.05,-1.5) 11(-16.51,1.5) 12(-13.97,-1.5) 13(-11.43,1.5) 14(-8.89,-1.5) 15(-6.35,1.5) 16(-3.81,-1.5) 17(-1.27,1.5) 18(1.27,-1.5) 19(3.81,1.5) 20(6.35,-1.5) 21(8.89,1.5) 22(11.43,-1.5) 23(13.97,1.5) 24(16.51,-1.5) 25(19.05,1.5) 26(21.59,-1.5) 27(24.13,1.5) 28(26.67,-1.5) 29(29.21,1.5) 30(31.75,-1.5) 31(34.29,1.5) 32(36.83,-1.5) 33(39.37,1.5) 34(41.91,-1.5)
Top Overlay:
  circle w0.25: c-43,2.2 r0.125
  lines w0.2: -42.73,1.345 -43.33,1.345 -43.33,-1.345 -40.17,-1.345 ; -41.09,1.345 -37.63,1.345 ; -38.57,-1.345 -35.11,-1.345 ; -36.01,1.345 -32.55,1.345 ; -33.49,-1.345 -30.03,-1.345 ; -30.93,1.345 -27.47,1.345 ; -28.41,-1.345 -24.95,-1.345 ; -25.85,1.345 -22.39,1.345 ; -23.33,-1.345 -19.87,-1.345 ; -20.77,1.345 -17.31,1.345 ; -18.25,-1.345 -14.79,-1.345 ; -15.69,1.345 -12.23,1.345 ; -13.17,-1.345 -9.71,-1.345 ; -10.61,1.345 -7.15,1.345 ; -8.09,-1.345 -4.63,-1.345 ; -5.53,1.345 -2.07,1.345 ; -3.01,-1.345 0.45,-1.345 ; -0.45,1.345 3.01,1.345 ; 2.07,-1.345 5.53,-1.345 ; 4.63,1.345 8.09,1.345 ; 7.15,-1.345 10.61,-1.345 ; 9.71,1.345 13.17,1.345 ; 12.23,-1.345 15.69,-1.345 ; 14.79,1.345 18.25,1.345 ; 17.31,-1.345 20.77,-1.345 ; 19.87,1.345 23.33,1.345 ; 22.39,-1.345 25.85,-1.345 ; 24.95,1.345 28.41,1.345 ; 27.47,-1.345 30.93,-1.345 ; 30.03,1.345 33.49,1.345 ; 32.55,-1.345 36.01,-1.345 ; 35.11,1.345 38.57,1.345 ; 37.63,-1.345 41.09,-1.345 ; 40.17,1.345 43.33,1.345 43.33,-1.345 42.73,-1.345
Top Designator:
  text ".Designator" at -7.498,-0.5 h1.5
Top Component Outline:
  lines w0.1: -42.23,1.27 -42.23,2.5 -41.59,2.5 -41.59,1.27 ; -39.69,-1.27 -39.69,-2.5 -39.05,-2.5 -39.05,-1.27 ; -37.15,1.27 -37.15,2.5 -36.51,2.5 -36.51,1.27 ; -34.61,-1.27 -34.61,-2.5 -33.97,-2.5 -33.97,-1.27 ; -32.07,1.27 -32.07,2.5 -31.43,2.5 -31.43,1.27 ; -29.53,-1.27 -29.53,-2.5 -28.89,-2.5 -28.89,-1.27 ; -26.99,1.27 -26.99,2.5 -26.35,2.5 -26.35,1.27 ; -24.45,-1.27 -24.45,-2.5 -23.81,-2.5 -23.81,-1.27 ; -21.91,1.27 -21.91,2.5 -21.27,2.5 -21.27,1.27 ; -19.37,-1.27 -19.37,-2.5 -18.73,-2.5 -18.73,-1.27 ; -16.83,1.27 -16.83,2.5 -16.19,2.5 -16.19,1.27 ; -14.29,-1.27 -14.29,-2.5 -13.65,-2.5 -13.65,-1.27 ; -11.75,1.27 -11.75,2.5 -11.11,2.5 -11.11,1.27 ; -9.21,-1.27 -9.21,-2.5 -8.57,-2.5 -8.57,-1.27 ; -6.67,1.27 -6.67,2.5 -6.03,2.5 -6.03,1.27 ; -4.13,-1.27 -4.13,-2.5 -3.49,-2.5 -3.49,-1.27 ; -1.59,1.27 -1.59,2.5 -0.95,2.5 -0.95,1.27 ; 0.95,-1.27 0.95,-2.5 1.59,-2.5 1.59,-1.27 ; 3.49,1.27 3.49,2.5 4.13,2.5 4.13,1.27 ; 6.03,-1.27 6.03,-2.5 6.67,-2.5 6.67,-1.27 ; 8.57,1.27 8.57,2.5 9.21,2.5 9.21,1.27 ; 11.11,-1.27 11.11,-2.5 11.75,-2.5 11.75,-1.27 ; 13.65,1.27 13.65,2.5 14.29,2.5 14.29,1.27 ; 16.19,-1.27 16.19,-2.5 16.83,-2.5 16.83,-1.27 ; 18.73,1.27 18.73,2.5 19.37,2.5 19.37,1.27 ; 21.27,-1.27 21.27,-2.5 21.91,-2.5 21.91,-1.27 ; 23.81,1.27 23.81,2.5 24.45,2.5 24.45,1.27 ; 26.35,-1.27 26.35,-2.5 26.99,-2.5 26.99,-1.27 ; 28.89,1.27 28.89,2.5 29.53,2.5 29.53,1.27 ; 31.43,-1.27 31.43,-2.5 32.07,-2.5 32.07,-1.27 ; 33.97,1.27 33.97,2.5 34.61,2.5 34.61,1.27 ; 36.51,-1.27 36.51,-2.5 37.15,-2.5 37.15,-1.27 ; 39.05,1.27 39.05,2.5 39.69,2.5 39.69,1.27 ; 41.59,-1.27 41.59,-2.5 42.23,-2.5 42.23,-1.27 ; -43.18,-1.27 -43.18,1.27 43.18,1.27 43.18,-1.27 -43.18,-1.27
Top Courtyard:
  lines w0.05: -43.53,-3.2 43.53,-3.2 43.53,3.2 -43.53,3.2 -43.53,-3.2
Top Component Center:
  lines w0.05: -0.5,0 0.5,0 ; 0,-0.5 0,0.5
3D body "61003418321.stp": height 9.37, standoff 0.04, extent -43.18,-2.5 43.18,2.5

## 61003421121 [mm] "Pin Header, pitch 2.54 mm, SMD, Vertical, dual row, 34p"
height 9.6
pads (34):
  rect 1x3.1 smd: 1(-20.32,-2.7) 2(-20.32,2.7) 3(-17.78,-2.7) 4(-17.78,2.7) 5(-15.24,-2.7) 6(-15.24,2.7) 7(-12.7,-2.7) 8(-12.7,2.7) 9(-10.16,-2.7) 10(-10.16,2.7) 11(-7.62,-2.7) 12(-7.62,2.7) 13(-5.08,-2.7) 14(-5.08,2.7) 15(-2.54,-2.7) 16(-2.54,2.7) 17(0,-2.7) 18(0,2.7) 19(2.54,-2.7) 20(2.54,2.7) 21(5.08,-2.7) 22(5.08,2.7) 23(7.62,-2.7) 24(7.62,2.7) 25(10.16,-2.7) 26(10.16,2.7) 27(12.7,-2.7) 28(12.7,2.7) 29(15.24,-2.7) 30(15.24,2.7) 31(17.78,-2.7) 32(17.78,2.7) 33(20.32,-2.7) 34(20.32,2.7)
Top Overlay:
  circle w0.25: c-21.45,-3.4 r0.125
  lines w0.2: -21.115,-2.565 -21.665,-2.565 -21.665,2.565 -21.115,2.565 ; 21.115,-2.565 21.665,-2.565 21.665,2.565 21.115,2.565
Top Designator:
  text ".Designator" at -7.498,-0.5 h1.5
Top Component Outline:
  lines w0.1: -20.64,-2.54 -20.64,-3.75 -20,-3.75 -20,-2.54 ; -20.64,2.54 -20.64,3.75 -20,3.75 -20,2.54 ; -18.1,-2.54 -18.1,-3.75 -17.46,-3.75 -17.46,-2.54 ; -18.1,2.54 -18.1,3.75 -17.46,3.75 -17.46,2.54 ; -15.56,-2.54 -15.56,-3.75 -14.92,-3.75 -14.92,-2.54 ; -15.56,2.54 -15.56,3.75 -14.92,3.75 -14.92,2.54 ; -13.02,-2.54 -13.02,-3.75 -12.38,-3.75 -12.38,-2.54 ; -13.02,2.54 -13.02,3.75 -12.38,3.75 -12.38,2.54 ; -10.48,-2.54 -10.48,-3.75 -9.84,-3.75 -9.84,-2.54 ; -10.48,2.54 -10.48,3.75 -9.84,3.75 -9.84,2.54 ; -7.94,-2.54 -7.94,-3.75 -7.3,-3.75 -7.3,-2.54 ; -7.94,2.54 -7.94,3.75 -7.3,3.75 -7.3,2.54 ; -5.4,-2.54 -5.4,-3.75 -4.76,-3.75 -4.76,-2.54 ; -5.4,2.54 -5.4,3.75 -4.76,3.75 -4.76,2.54 ; -2.86,-2.54 -2.86,-3.75 -2.22,-3.75 -2.22,-2.54 ; -2.86,2.54 -2.86,3.75 -2.22,3.75 -2.22,2.54 ; -0.32,-2.54 -0.32,-3.75 0.32,-3.75 0.32,-2.54 ; -0.32,2.54 -0.32,3.75 0.32,3.75 0.32,2.54 ; 2.22,-2.54 2.22,-3.75 2.86,-3.75 2.86,-2.54 ; 2.22,2.54 2.22,3.75 2.86,3.75 2.86,2.54 ; 4.76,-2.54 4.76,-3.75 5.4,-3.75 5.4,-2.54 ; 4.76,2.54 4.76,3.75 5.4,3.75 5.4,2.54 ; 7.3,-2.54 7.3,-3.75 7.94,-3.75 7.94,-2.54 ; 7.3,2.54 7.3,3.75 7.94,3.75 7.94,2.54 ; 9.84,-2.54 9.84,-3.75 10.48,-3.75 10.48,-2.54 ; 9.84,2.54 9.84,3.75 10.48,3.75 10.48,2.54 ; 12.38,-2.54 12.38,-3.75 13.02,-3.75 13.02,-2.54 ; 12.38,2.54 12.38,3.75 13.02,3.75 13.02,2.54 ; 14.92,-2.54 14.92,-3.75 15.56,-3.75 15.56,-2.54 ; 14.92,2.54 14.92,3.75 15.56,3.75 15.56,2.54 ; 17.46,-2.54 17.46,-3.75 18.1,-3.75 18.1,-2.54 ; 17.46,2.54 17.46,3.75 18.1,3.75 18.1,2.54 ; 20,-2.54 20,-3.75 20.64,-3.75 20.64,-2.54 ; 20,2.54 20,3.75 20.64,3.75 20.64,2.54 ; -21.59,-2.54 21.59,-2.54 21.59,2.54 -21.59,2.54 -21.59,-2.54
Top Courtyard:
  lines w0.05: -21.865,-4.45 21.865,-4.45 21.865,4.45 -21.865,4.45 -21.865,-4.45
Top Component Center:
  lines w0.05: -0.5,0 0.5,0 ; 0,-0.5 0,0.5
3D body "61003421121.stp": height 9.62, standoff 0.02, extent -21.59,-3.75 21.59,3.75

## 61003618321 [mm] "Pin Header, pitch 2.54 mm, SMD, Vertical, single row, 36p"
height 9.3
pads (36):
  rect 1x3 smd: 1(-44.45,1.5) 2(-41.91,-1.5) 3(-39.37,1.5) 4(-36.83,-1.5) 5(-34.29,1.5) 6(-31.75,-1.5) 7(-29.21,1.5) 8(-26.67,-1.5) 9(-24.13,1.5) 10(-21.59,-1.5) 11(-19.05,1.5) 12(-16.51,-1.5) 13(-13.97,1.5) 14(-11.43,-1.5) 15(-8.89,1.5) 16(-6.35,-1.5) 17(-3.81,1.5) 18(-1.27,-1.5) 19(1.27,1.5) 20(3.81,-1.5) 21(6.35,1.5) 22(8.89,-1.5) 23(11.43,1.5) 24(13.97,-1.5) 25(16.51,1.5) 26(19.05,-1.5) 27(21.59,1.5) 28(24.13,-1.5) 29(26.67,1.5) 30(29.21,-1.5) 31(31.75,1.5) 32(34.29,-1.5) 33(36.83,1.5) 34(39.37,-1.5) 35(41.91,1.5) 36(44.45,-1.5)
Top Overlay:
  circle w0.25: c-45.54,2.2 r0.125
  lines w0.2: -45.27,1.345 -45.87,1.345 -45.87,-1.345 -42.71,-1.345 ; -43.63,1.345 -40.17,1.345 ; -41.11,-1.345 -37.65,-1.345 ; -38.55,1.345 -35.09,1.345 ; -36.03,-1.345 -32.57,-1.345 ; -33.47,1.345 -30.01,1.345 ; -30.95,-1.345 -27.49,-1.345 ; -28.39,1.345 -24.93,1.345 ; -25.87,-1.345 -22.41,-1.345 ; -23.31,1.345 -19.85,1.345 ; -20.79,-1.345 -17.33,-1.345 ; -18.23,1.345 -14.77,1.345 ; -15.71,-1.345 -12.25,-1.345 ; -13.15,1.345 -9.69,1.345 ; -10.63,-1.345 -7.17,-1.345 ; -8.07,1.345 -4.61,1.345 ; -5.55,-1.345 -2.09,-1.345 ; -2.99,1.345 0.47,1.345 ; -0.47,-1.345 2.99,-1.345 ; 2.09,1.345 5.55,1.345 ; 4.61,-1.345 8.07,-1.345 ; 7.17,1.345 10.63,1.345 ; 9.69,-1.345 13.15,-1.345 ; 12.25,1.345 15.71,1.345 ; 14.77,-1.345 18.23,-1.345 ; 17.33,1.345 20.79,1.345 ; 19.85,-1.345 23.31,-1.345 ; 22.41,1.345 25.87,1.345 ; 24.93,-1.345 28.39,-1.345 ; 27.49,1.345 30.95,1.345 ; 30.01,-1.345 33.47,-1.345 ; 32.57,1.345 36.03,1.345 ; 35.09,-1.345 38.55,-1.345 ; 37.65,1.345 41.11,1.345 ; 40.17,-1.345 43.63,-1.345 ; 42.71,1.345 45.87,1.345 45.87,-1.345 45.27,-1.345
Top Designator:
  text ".Designator" at -7.498,-0.5 h1.5
Top Component Outline:
  lines w0.1: -44.77,1.27 -44.77,2.5 -44.13,2.5 -44.13,1.27 ; -42.23,-1.27 -42.23,-2.5 -41.59,-2.5 -41.59,-1.27 ; -39.69,1.27 -39.69,2.5 -39.05,2.5 -39.05,1.27 ; -37.15,-1.27 -37.15,-2.5 -36.51,-2.5 -36.51,-1.27 ; -34.61,1.27 -34.61,2.5 -33.97,2.5 -33.97,1.27 ; -32.07,-1.27 -32.07,-2.5 -31.43,-2.5 -31.43,-1.27 ; -29.53,1.27 -29.53,2.5 -28.89,2.5 -28.89,1.27 ; -26.99,-1.27 -26.99,-2.5 -26.35,-2.5 -26.35,-1.27 ; -24.45,1.27 -24.45,2.5 -23.81,2.5 -23.81,1.27 ; -21.91,-1.27 -21.91,-2.5 -21.27,-2.5 -21.27,-1.27 ; -19.37,1.27 -19.37,2.5 -18.73,2.5 -18.73,1.27 ; -16.83,-1.27 -16.83,-2.5 -16.19,-2.5 -16.19,-1.27 ; -14.29,1.27 -14.29,2.5 -13.65,2.5 -13.65,1.27 ; -11.75,-1.27 -11.75,-2.5 -11.11,-2.5 -11.11,-1.27 ; -9.21,1.27 -9.21,2.5 -8.57,2.5 -8.57,1.27 ; -6.67,-1.27 -6.67,-2.5 -6.03,-2.5 -6.03,-1.27 ; -4.13,1.27 -4.13,2.5 -3.49,2.5 -3.49,1.27 ; -1.59,-1.27 -1.59,-2.5 -0.95,-2.5 -0.95,-1.27 ; 0.95,1.27 0.95,2.5 1.59,2.5 1.59,1.27 ; 3.49,-1.27 3.49,-2.5 4.13,-2.5 4.13,-1.27 ; 6.03,1.27 6.03,2.5 6.67,2.5 6.67,1.27 ; 8.57,-1.27 8.57,-2.5 9.21,-2.5 9.21,-1.27 ; 11.11,1.27 11.11,2.5 11.75,2.5 11.75,1.27 ; 13.65,-1.27 13.65,-2.5 14.29,-2.5 14.29,-1.27 ; 16.19,1.27 16.19,2.5 16.83,2.5 16.83,1.27 ; 18.73,-1.27 18.73,-2.5 19.37,-2.5 19.37,-1.27 ; 21.27,1.27 21.27,2.5 21.91,2.5 21.91,1.27 ; 23.81,-1.27 23.81,-2.5 24.45,-2.5 24.45,-1.27 ; 26.35,1.27 26.35,2.5 26.99,2.5 26.99,1.27 ; 28.89,-1.27 28.89,-2.5 29.53,-2.5 29.53,-1.27 ; 31.43,1.27 31.43,2.5 32.07,2.5 32.07,1.27 ; 33.97,-1.27 33.97,-2.5 34.61,-2.5 34.61,-1.27 ; 36.51,1.27 36.51,2.5 37.15,2.5 37.15,1.27 ; 39.05,-1.27 39.05,-2.5 39.69,-2.5 39.69,-1.27 ; 41.59,1.27 41.59,2.5 42.23,2.5 42.23,1.27 ; 44.13,-1.27 44.13,-2.5 44.77,-2.5 44.77,-1.27 ; -45.72,-1.27 45.72,-1.27 45.72,1.27 -45.72,1.27 -45.72,-1.27
Top Courtyard:
  lines w0.05: -46.07,-3.2 46.07,-3.2 46.07,3.2 -46.07,3.2 -46.07,-3.2
Top Component Center:
  lines w0.05: -0.5,0 0.5,0 ; 0,-0.5 0,0.5
3D body "61003618321.stp": height 9.37, standoff 0.04, extent -45.72,-2.5 45.72,2.5

## 61003621121 [mm] "Pin Header, pitch 2.54 mm, SMD, Vertical, dual row, 36p"
height 9.6
pads (36):
  rect 1x3.1 smd: 1(-21.59,-2.7) 2(-21.59,2.7) 3(-19.05,-2.7) 4(-19.05,2.7) 5(-16.51,-2.7) 6(-16.51,2.7) 7(-13.97,-2.7) 8(-13.97,2.7) 9(-11.43,-2.7) 10(-11.43,2.7) 11(-8.89,-2.7) 12(-8.89,2.7) 13(-6.35,-2.7) 14(-6.35,2.7) 15(-3.81,-2.7) 16(-3.81,2.7) 17(-1.27,-2.7) 18(-1.27,2.7) 19(1.27,-2.7) 20(1.27,2.7) 21(3.81,-2.7) 22(3.81,2.7) 23(6.35,-2.7) 24(6.35,2.7) 25(8.89,-2.7) 26(8.89,2.7) 27(11.43,-2.7) 28(11.43,2.7) 29(13.97,-2.7) 30(13.97,2.7) 31(16.51,-2.7) 32(16.51,2.7) 33(19.05,-2.7) 34(19.05,2.7) 35(21.59,-2.7) 36(21.59,2.7)
Top Overlay:
  circle w0.25: c-22.72,-3.4 r0.125
  lines w0.2: -22.385,-2.565 -22.935,-2.565 -22.935,2.565 -22.385,2.565 ; 22.385,-2.565 22.935,-2.565 22.935,2.565 22.385,2.565
Top Designator:
  text ".Designator" at -7.498,-0.5 h1.5
Top Component Outline:
  lines w0.1: -21.91,-2.54 -21.91,-3.75 -21.27,-3.75 -21.27,-2.54 ; -21.91,2.54 -21.91,3.75 -21.27,3.75 -21.27,2.54 ; -19.37,-2.54 -19.37,-3.75 -18.73,-3.75 -18.73,-2.54 ; -19.37,2.54 -19.37,3.75 -18.73,3.75 -18.73,2.54 ; -16.83,-2.54 -16.83,-3.75 -16.19,-3.75 -16.19,-2.54 ; -16.83,2.54 -16.83,3.75 -16.19,3.75 -16.19,2.54 ; -14.29,-2.54 -14.29,-3.75 -13.65,-3.75 -13.65,-2.54 ; -14.29,2.54 -14.29,3.75 -13.65,3.75 -13.65,2.54 ; -11.75,-2.54 -11.75,-3.75 -11.11,-3.75 -11.11,-2.54 ; -11.75,2.54 -11.75,3.75 -11.11,3.75 -11.11,2.54 ; -9.21,-2.54 -9.21,-3.75 -8.57,-3.75 -8.57,-2.54 ; -9.21,2.54 -9.21,3.75 -8.57,3.75 -8.57,2.54 ; -6.67,-2.54 -6.67,-3.75 -6.03,-3.75 -6.03,-2.54 ; -6.67,2.54 -6.67,3.75 -6.03,3.75 -6.03,2.54 ; -4.13,-2.54 -4.13,-3.75 -3.49,-3.75 -3.49,-2.54 ; -4.13,2.54 -4.13,3.75 -3.49,3.75 -3.49,2.54 ; -1.59,-2.54 -1.59,-3.75 -0.95,-3.75 -0.95,-2.54 ; -1.59,2.54 -1.59,3.75 -0.95,3.75 -0.95,2.54 ; 0.95,-2.54 0.95,-3.75 1.59,-3.75 1.59,-2.54 ; 0.95,2.54 0.95,3.75 1.59,3.75 1.59,2.54 ; 3.49,-2.54 3.49,-3.75 4.13,-3.75 4.13,-2.54 ; 3.49,2.54 3.49,3.75 4.13,3.75 4.13,2.54 ; 6.03,-2.54 6.03,-3.75 6.67,-3.75 6.67,-2.54 ; 6.03,2.54 6.03,3.75 6.67,3.75 6.67,2.54 ; 8.57,-2.54 8.57,-3.75 9.21,-3.75 9.21,-2.54 ; 8.57,2.54 8.57,3.75 9.21,3.75 9.21,2.54 ; 11.11,-2.54 11.11,-3.75 11.75,-3.75 11.75,-2.54 ; 11.11,2.54 11.11,3.75 11.75,3.75 11.75,2.54 ; 13.65,-2.54 13.65,-3.75 14.29,-3.75 14.29,-2.54 ; 13.65,2.54 13.65,3.75 14.29,3.75 14.29,2.54 ; 16.19,-2.54 16.19,-3.75 16.83,-3.75 16.83,-2.54 ; 16.19,2.54 16.19,3.75 16.83,3.75 16.83,2.54 ; 18.73,-2.54 18.73,-3.75 19.37,-3.75 19.37,-2.54 ; 18.73,2.54 18.73,3.75 19.37,3.75 19.37,2.54 ; 21.27,-2.54 21.27,-3.75 21.91,-3.75 21.91,-2.54 ; 21.27,2.54 21.27,3.75 21.91,3.75 21.91,2.54 ; -22.86,-2.54 -22.86,2.54 22.86,2.54 22.86,-2.54 -22.86,-2.54
Top Courtyard:
  lines w0.05: -23.135,-4.45 -23.135,4.45 23.135,4.45 23.135,-4.45 -23.135,-4.45
Top Component Center:
  lines w0.05: -0.5,0 0.5,0 ; 0,-0.5 0,0.5
3D body "61003621121.stp": height 9.62, standoff 0.02, extent -22.86,-3.75 22.86,3.75

## 61030421121 [mm] "Pin Header, pitch 2.54 mm, SMD, Vertical, dual row, 4p"
height 9.6
pads (4):
  rect 1x3.1 smd: 1(-1.27,-2.7) 2(-1.27,2.7) 3(1.27,-2.7) 4(1.27,2.7)
Top Overlay:
  circle w0.25: c-2.4,-3.4 r0.125
  lines w0.2: -2.065,-2.615 -2.615,-2.615 -2.615,2.615 -2.065,2.615 ; 2.065,-2.615 2.615,-2.615 2.615,2.615 2.065,2.615
Top Designator:
  text ".Designator" at -7.498,-0.5 h1.5
Top Component Outline:
  lines w0.1: -1.59,-2.54 -1.59,-3.75 -0.95,-3.75 -0.95,-2.54 ; -1.59,2.54 -1.59,3.75 -0.95,3.75 -0.95,2.54 ; 0.95,-2.54 0.95,-3.75 1.59,-3.75 1.59,-2.54 ; 0.95,2.54 0.95,3.75 1.59,3.75 1.59,2.54 ; -2.54,-2.54 -2.54,2.54 2.54,2.54 2.54,-2.54 -2.54,-2.54
Top Courtyard:
  lines w0.05: -2.815,-4.45 2.815,-4.45 2.815,4.45 -2.815,4.45 -2.815,-4.45
Top Component Center:
  lines w0.05: -0.5,0 0.5,0 ; 0,-0.5 0,0.5
3D body "61030421121.stp": height 9.62, standoff 0.02, extent -2.54,-3.75 2.54,3.75

## 61030621121 [mm] "Pin Header, pitch 2.54 mm, SMD, Vertical, dual row, 6p"
height 9.6
pads (6):
  rect 1x3.1 smd: 1(-2.54,-2.7) 2(-2.54,2.7) 3(0,-2.7) 4(0,2.7) 5(2.54,-2.7) 6(2.54,2.7)
Top Overlay:
  circle w0.25: c-3.67,-3.4 r0.125
  lines w0.2: -3.335,-2.615 -3.885,-2.615 -3.885,2.615 -3.335,2.615 ; 3.335,-2.615 3.885,-2.615 3.885,2.615 3.335,2.615
Top Designator:
  text ".Designator" at -7.498,-0.5 h1.5
Top Component Outline:
  lines w0.1: -2.86,-2.54 -2.86,-3.75 -2.22,-3.75 -2.22,-2.54 ; -2.86,2.54 -2.86,3.75 -2.22,3.75 -2.22,2.54 ; -0.32,-2.54 -0.32,-3.75 0.32,-3.75 0.32,-2.54 ; -0.32,2.54 -0.32,3.75 0.32,3.75 0.32,2.54 ; 2.22,-2.54 2.22,-3.75 2.86,-3.75 2.86,-2.54 ; 2.22,2.54 2.22,3.75 2.86,3.75 2.86,2.54 ; -3.81,-2.54 -3.81,2.54 3.81,2.54 3.81,-2.54 -3.81,-2.54
Top Courtyard:
  lines w0.05: -4.085,-4.45 -4.085,4.45 4.085,4.45 4.085,-4.45 -4.085,-4.45
Top Component Center:
  lines w0.05: -0.5,0 0.5,0 ; 0,-0.5 0,0.5
3D body "61030621121.stp": height 9.62, standoff 0.02, extent -3.81,-3.75 3.81,3.75